# EAGLE library part 1X6 (library _pinheader)
PIN HEADER
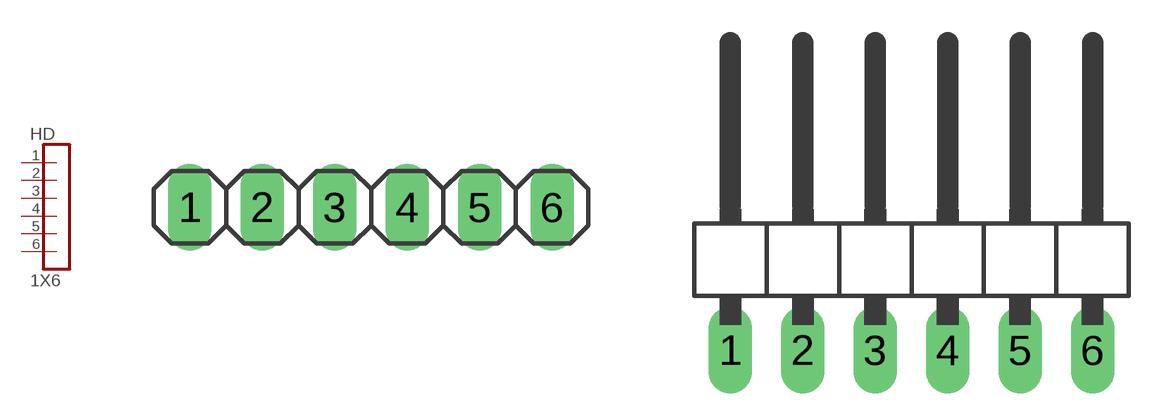
[diagram p6: symbol with the pads of 1X6-I; footprints 1X6-I, 1X6-L]

Designator prefix HD

## 1X6I  [1X6-I]
1  1  pas
2  2  pas
3  3  pas
4  4  pas
5  5  pas
6  6  pas

## 1X6L  [1X6-L]
Pads as for 1X6-I

## Footprint 1X6-I (pad centres in mm)
PIN HEADER
drill 1.016 long: 1 -6.35,0; 2 -3.81,0; 3 -1.27,0; 4 1.27,0; 5 3.81,0; 6 6.35,0

## Footprint 1X6-L (pad centres in mm)
PIN HEADER
drill 1.016 long: 1 -6.35,-3.81; 2 -3.81,-3.81; 3 -1.27,-3.81; 4 1.27,-3.81; 5 3.81,-3.81; 6 6.35,-3.81